# Altium footprint library B39871B3725U410.PcbLib: 3 footprints
Each footprint in its own frame and in the unit in brackets; x right, y up, seen from the top. Pads: shape width x height; smd on the part's side, far side on the other; paste and mask are expansions set on the pad; w line width, h text height; cw(c..) or ccw(c..) is an arc to the next point about the centre after c.
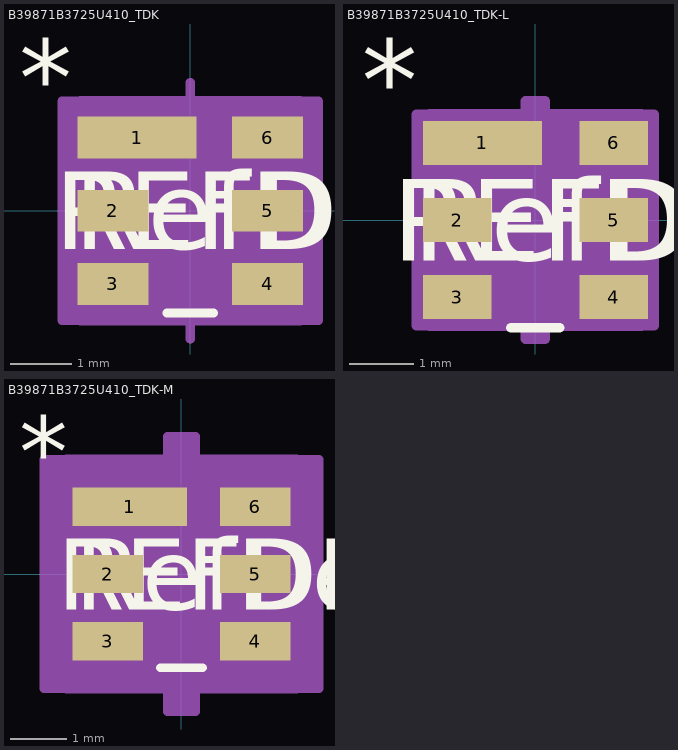
[diagram p0: the footprints below, top view; thin cyan lines are the x and y axes]

## B39871B3725U410_TDK [mm]
pads (6):
  rect 1.951x0.686 smd paste+0 mask+0: 1(-0.874,1.2)
  rect 1.164x0.686 smd paste+0 mask+0: 2(-1.268,0) 3(-1.268,-1.2) 4(1.268,-1.2) 5(1.268,0) 6(1.268,1.2)
Top Overlay:
  lines w0.152: -0.381,-1.676 0.381,-1.676
  text "*" at -2.802,1.546 h1.27
  text "RefDes" at -1.905,-0.635 h1.27
  text "REFDES" at -2.222,-0.635 h1.27
Mechanical 13:
  lines w0.025: -1.549,0.279 -0.279,1.549 ; -1.549,-1.556 -1.549,-0.844 ; -1.549,-1.556 -1.549,-0.844 ; -1.549,-1.556 -1.549,-1.556 ; -1.549,-0.844 -1.549,-0.844 ; -1.549,-0.356 -1.549,0.356 ; -1.549,-0.356 -1.549,0.356 ; -1.549,-0.356 -1.549,-0.356 ; -1.549,0.356 -1.549,0.356 ; -1.549,0.844 -1.549,1.556 ; -1.549,0.844 -1.549,1.556 ; -1.549,0.844 -1.549,0.844 ; -1.549,1.556 -1.549,1.556 ; 1.549,-1.556 1.549,-0.844 ; 1.549,-1.556 1.549,-1.556 ; 1.549,-1.556 1.549,-0.844 ; 1.549,-0.844 1.549,-0.844 ; 1.549,-0.356 1.549,0.356 ; 1.549,-0.356 1.549,-0.356 ; 1.549,-0.356 1.549,0.356 ; 1.549,0.356 1.549,0.356 ; 1.549,0.844 1.549,1.556 ; 1.549,0.844 1.549,0.844 ; 1.549,0.844 1.549,1.556 ; 1.549,1.556 1.549,1.556 ; -1.549,-1.549 1.549,-1.549 1.549,1.549 -1.549,1.549 -1.549,-1.549
  text "*" at -1.359,-0.229 h1.27
  text "RefDes2" at -2.222,-0.635 h1.27
Mechanical 15:
  region: 0.003,-1.803 -1.803,-1.803 -1.803,-1.797 -2.103,-1.797 -2.103,1.797 -1.803,1.797 -1.803,1.803 0.003,1.803 0.003,2.103 -0.003,2.103 -0.003,1.803 1.803,1.803 1.803,1.797 2.103,1.797 2.103,-1.797 1.803,-1.797 1.803,-1.803 -0.003,-1.803 -0.003,-2.103 0.003,-2.103
  lines w0.152: -2.103,-1.797 -1.803,-1.797 -1.803,-1.803 0.003,-1.803 0.003,-2.103 -0.003,-2.103 -0.003,-1.803 1.803,-1.803 1.803,-1.797 2.103,-1.797 2.103,1.797 1.803,1.797 1.803,1.803 -0.003,1.803 -0.003,2.103 0.003,2.103 0.003,1.803 -1.803,1.803 -1.803,1.797 -2.103,1.797 -2.103,-1.797
3D body "B39871B3725U410_TDK.step": height 1.22, standoff 0, extent -1.6,-1.556 1.6,1.556

## B39871B3725U410_TDK-L [mm]
pads (6):
  rect 1.851x0.686 smd paste+0 mask+0: 1(-0.824,1.2)
  rect 1.064x0.686 smd paste+0 mask+0: 2(-1.218,0) 3(-1.218,-1.2) 4(1.218,-1.2) 5(1.218,0) 6(1.218,1.2)
Top Overlay:
  lines w0.152: -0.381,-1.676 0.381,-1.676
  text "*" at -2.702,1.546 h1.27
  text "RefDes" at -1.905,-0.635 h1.27
  text "REFDES" at -2.222,-0.635 h1.27
Mechanical 13:
  lines w0.025: -1.549,0.279 -0.279,1.549 ; -1.549,-1.556 -1.549,-0.844 ; -1.549,-1.556 -1.549,-0.844 ; -1.549,-1.556 -1.549,-1.556 ; -1.549,-0.844 -1.549,-0.844 ; -1.549,-0.356 -1.549,0.356 ; -1.549,-0.356 -1.549,0.356 ; -1.549,-0.356 -1.549,-0.356 ; -1.549,0.356 -1.549,0.356 ; -1.549,0.844 -1.549,1.556 ; -1.549,0.844 -1.549,1.556 ; -1.549,0.844 -1.549,0.844 ; -1.549,1.556 -1.549,1.556 ; 1.549,-1.556 1.549,-0.844 ; 1.549,-1.556 1.549,-1.556 ; 1.549,-1.556 1.549,-0.844 ; 1.549,-0.844 1.549,-0.844 ; 1.549,-0.356 1.549,0.356 ; 1.549,-0.356 1.549,-0.356 ; 1.549,-0.356 1.549,0.356 ; 1.549,0.356 1.549,0.356 ; 1.549,0.844 1.549,1.556 ; 1.549,0.844 1.549,0.844 ; 1.549,0.844 1.549,1.556 ; 1.549,1.556 1.549,1.556 ; -1.549,-1.549 1.549,-1.549 1.549,1.549 -1.549,1.549 -1.549,-1.549
  text "*" at -1.359,-0.229 h1.27
  text "RefDes2" at -2.222,-0.635 h1.27
Mechanical 15:
  region: 0.155,-1.651 -1.651,-1.651 -1.651,-1.645 -1.851,-1.645 -1.851,1.645 -1.651,1.645 -1.651,1.651 0.155,1.651 0.155,1.851 -0.155,1.851 -0.155,1.651 1.651,1.651 1.651,1.645 1.851,1.645 1.851,-1.645 1.651,-1.645 1.651,-1.651 -0.155,-1.651 -0.155,-1.851 0.155,-1.851
  lines w0.152: -1.851,-1.645 -1.651,-1.645 -1.651,-1.651 0.155,-1.651 0.155,-1.851 -0.155,-1.851 -0.155,-1.651 1.651,-1.651 1.651,-1.645 1.851,-1.645 1.851,1.645 1.651,1.645 1.651,1.651 -0.155,1.651 -0.155,1.851 0.155,1.851 0.155,1.651 -1.651,1.651 -1.651,1.645 -1.851,1.645 -1.851,-1.645
3D body "B39871B3725U410_TDK.step": height 1.22, standoff 0, extent -1.6,-1.556 1.6,1.556

## B39871B3725U410_TDK-M [mm]
pads (6):
  rect 2.051x0.686 smd paste+0 mask+0: 1(-0.924,1.2)
  rect 1.264x0.686 smd paste+0 mask+0: 2(-1.318,0) 3(-1.318,-1.2) 4(1.318,-1.2) 5(1.318,0) 6(1.318,1.2)
Top Overlay:
  lines w0.152: -0.381,-1.676 0.381,-1.676
  text "*" at -2.902,1.546 h1.27
  text "RefDes" at -1.905,-0.635 h1.27
  text "REFDES" at -2.222,-0.635 h1.27
Mechanical 13:
  lines w0.025: -1.549,0.279 -0.279,1.549 ; -1.549,-1.556 -1.549,-0.844 ; -1.549,-1.556 -1.549,-0.844 ; -1.549,-1.556 -1.549,-1.556 ; -1.549,-0.844 -1.549,-0.844 ; -1.549,-0.356 -1.549,0.356 ; -1.549,-0.356 -1.549,0.356 ; -1.549,-0.356 -1.549,-0.356 ; -1.549,0.356 -1.549,0.356 ; -1.549,0.844 -1.549,1.556 ; -1.549,0.844 -1.549,1.556 ; -1.549,0.844 -1.549,0.844 ; -1.549,1.556 -1.549,1.556 ; 1.549,-1.556 1.549,-0.844 ; 1.549,-1.556 1.549,-1.556 ; 1.549,-1.556 1.549,-0.844 ; 1.549,-0.844 1.549,-0.844 ; 1.549,-0.356 1.549,0.356 ; 1.549,-0.356 1.549,-0.356 ; 1.549,-0.356 1.549,0.356 ; 1.549,0.356 1.549,0.356 ; 1.549,0.844 1.549,1.556 ; 1.549,0.844 1.549,0.844 ; 1.549,0.844 1.549,1.556 ; 1.549,1.556 1.549,1.556 ; -1.549,-1.549 1.549,-1.549 1.549,1.549 -1.549,1.549 -1.549,-1.549
  text "*" at -1.359,-0.229 h1.27
  text "RefDes2" at -2.222,-0.635 h1.27
Mechanical 15:
  region: -0.251,-2.057 -2.057,-2.057 -2.057,-2.051 -2.457,-2.051 -2.457,2.051 -2.057,2.051 -2.057,2.057 -0.251,2.057 -0.251,2.457 0.251,2.457 0.251,2.057 2.057,2.057 2.057,2.051 2.457,2.051 2.457,-2.051 2.057,-2.051 2.057,-2.057 0.251,-2.057 0.251,-2.457 -0.251,-2.457
  lines w0.152: -2.457,-2.051 -2.057,-2.051 -2.057,-2.057 -0.251,-2.057 -0.251,-2.457 0.251,-2.457 0.251,-2.057 2.057,-2.057 2.057,-2.051 2.457,-2.051 2.457,2.051 2.057,2.051 2.057,2.057 0.251,2.057 0.251,2.457 -0.251,2.457 -0.251,2.057 -2.057,2.057 -2.057,2.051 -2.457,2.051 -2.457,-2.051
3D body "B39871B3725U410_TDK.step": height 1.22, standoff 0, extent -1.6,-1.556 1.6,1.556